# Altium footprint library HGH.PcbLib: 336 footprints (part 16 of 21)
Each footprint in its own frame and in the unit in brackets; x right, y up, seen from the top. Pads: shape width x height; smd on the part's side, far side on the other; paste and mask are expansions set on the pad; w line width, h text height; cw(c..) or ccw(c..) is an arc to the next point about the centre after c.
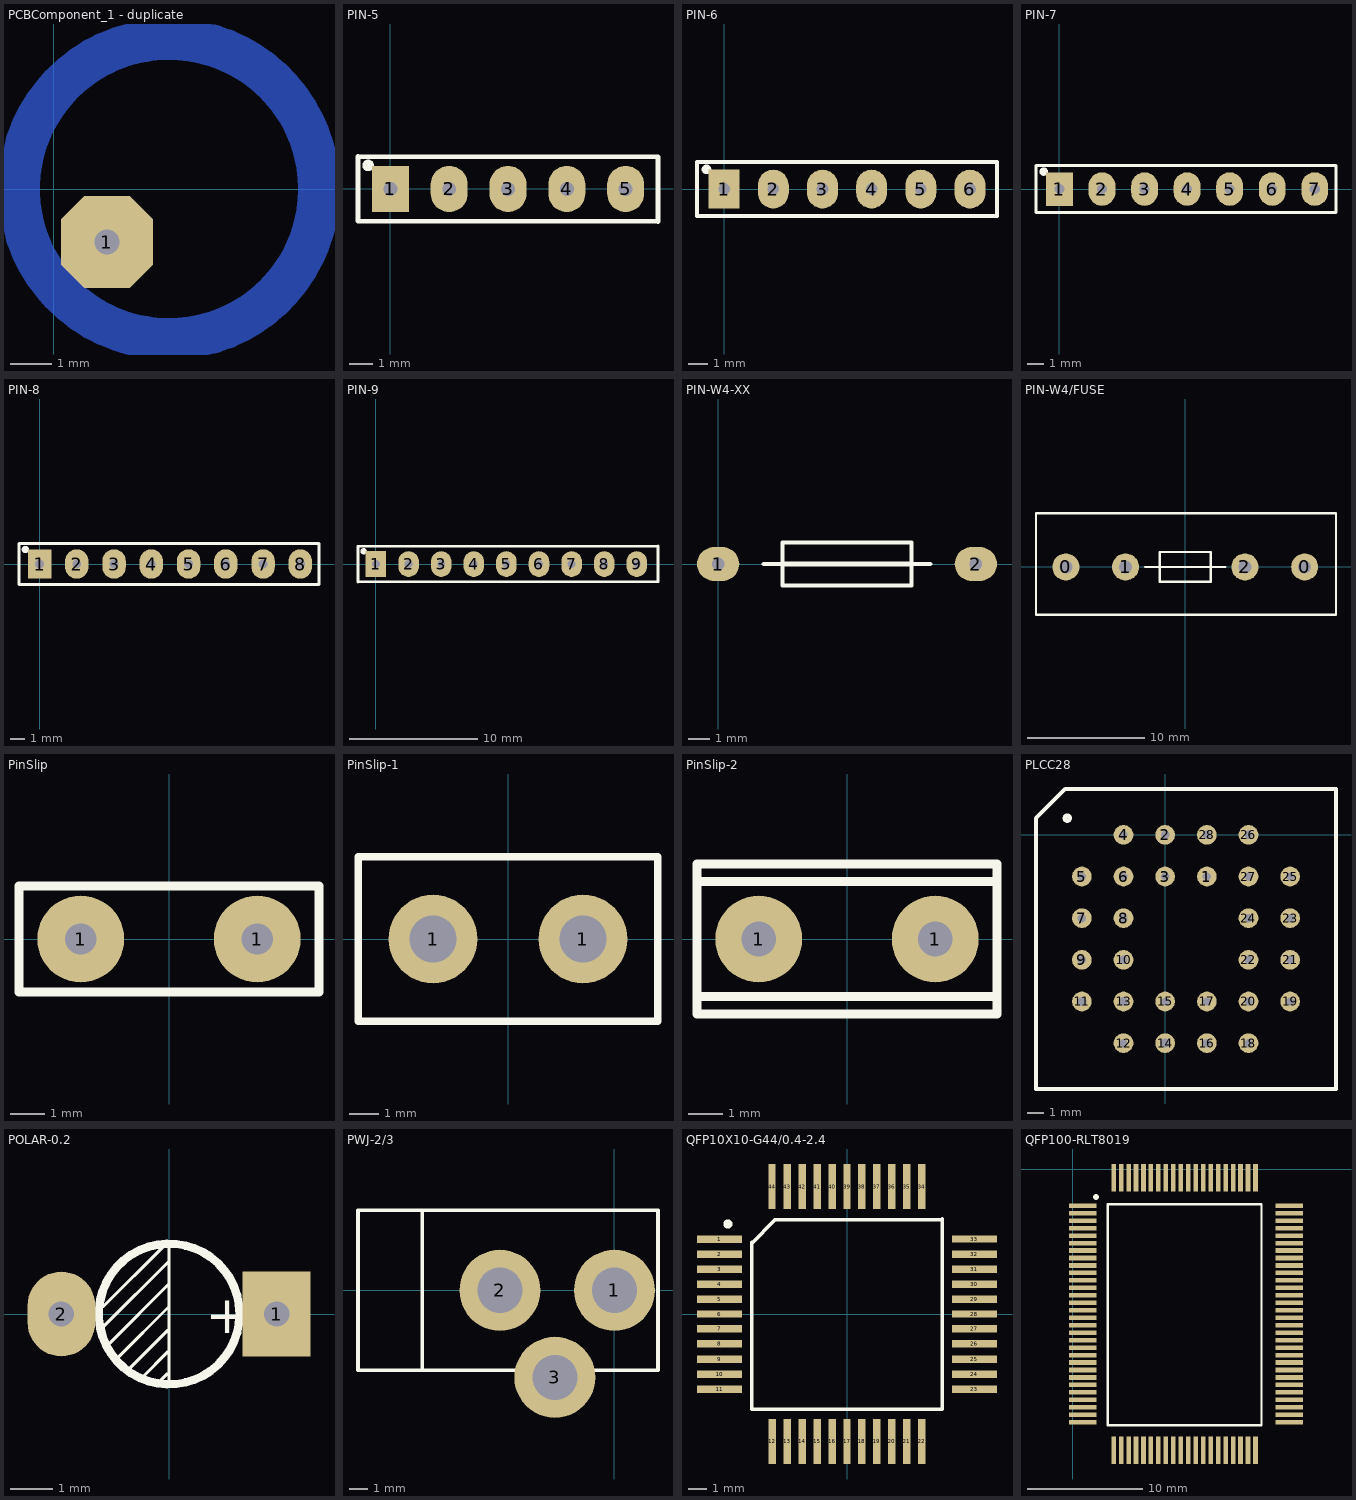
[diagram p15: the footprints below, top view; thin cyan lines are the x and y axes]

## PCBComponent_1 - duplicate [mm]
pads (1):
  oct 2.2x2.2 hole 0.6: 1(1.27,-1.27)
Bottom Layer:
  circle w1: c2.758,0 r3.592

## PIN-5 [mm]
pads (5):
  rect 1.6x2 hole 0.6: 1(0,0)
  oval 1.6x2 hole 0.6: 2(2.54,0) 3(5.08,0) 4(7.62,0) 5(10.16,0)
Top Overlay:
  circle w0.25: c-0.963,1.016 r0.125
  lines w0.2: -1.4,-1.4 -1.4,1.4 ; -1.397,-1.397 11.557,-1.397 ; -1.397,1.397 11.557,1.397 11.557,-1.403

## PIN-6 [mm]
pads (6):
  rect 1.6x2 hole 0.6: 1(0,0)
  oval 1.6x2 hole 0.6: 2(2.54,0) 3(5.08,0) 4(7.62,0) 5(10.16,0) 6(12.7,0)
Top Overlay:
  circle w0.25: c-0.912,1.016 r0.125
  lines w0.2: -1.4,-1.4 -1.4,1.4 14.097,1.403 14.097,-1.397 -1.4,-1.4

## PIN-7 [mm]
pads (7):
  rect 1.6x2 hole 0.6: 1(0,0)
  oval 1.6x2 hole 0.6: 2(2.54,0) 3(5.08,0) 4(7.62,0) 5(10.16,0) 6(12.7,0) 7(15.24,0)
Top Overlay:
  circle w0.25: c-0.938,1.041 r0.125
  lines w0.2: 16.51,-1.4 -1.4,-1.4 -1.4,1.4 16.51,1.397 ; 16.51,-1.397 16.51,1.403

## PIN-8 [mm]
pads (8):
  rect 1.6x2 hole 0.6: 1(0,0)
  oval 1.6x2 hole 0.6: 2(2.54,0) 3(5.08,0) 4(7.62,0) 5(10.16,0) 6(12.7,0) 7(15.24,0) 8(17.78,0)
Top Overlay:
  circle w0.25: c-0.963,0.991 r0.125
  lines w0.2: 19.05,1.397 -1.4,1.4 -1.4,-1.4 19.05,-1.397 19.05,1.403

## PIN-9 [mm]
pads (9):
  rect 1.6x2 hole 0.6: 1(0,0)
  oval 1.6x2 hole 0.6: 2(2.54,0) 3(5.08,0) 4(7.62,0) 5(10.16,0) 6(12.7,0) 7(15.24,0) 8(17.78,0) 9(20.32,0)
Top Overlay:
  circle w0.25: c-0.963,0.991 r0.125
  lines w0.2: -1.4,-1.4 -1.4,1.4 21.971,1.403 21.971,-1.397 -1.4,-1.4

## PIN-W4-XX [mm]
pads (2):
  oval 2x1.6 hole 0.6: 1(0,0) 2(12.192,0)
Top Overlay:
  lines w0.2: 2.159,0 3.048,0 ; 9.144,0 10.033,0 ; 3.048,-1.016 3.048,1.016 9.144,1.016 9.144,-1.016 3.048,-1.016
  lines w0.254: 3.048,0 9.144,0

## PIN-W4/FUSE [mm]
pads (4):
  round 2.3 hole 1.1: 0(-10.16,0) 0(10.16,0) 1(-5.08,0) 2(5.08,0)
Top Overlay:
  lines w0.2: -3.429,0 3.429,0 ; -12.7,-4.064 -12.7,4.572 12.827,4.572 12.827,-4.064 -12.7,-4.064 ; -2.159,-1.27 -2.159,1.27 2.159,1.27 2.159,-1.27 -2.159,-1.27

## PinSlip [mm]
pads (2):
  round 2.5 hole 0.9: 1(-2.54,0) 1(2.54,0)
Top Overlay:
  lines w0.254: -4.318,-1.524 -4.318,1.524 4.318,1.524 4.318,-1.524 -4.318,-1.524

## PinSlip-1 [mm]
pads (2):
  round 3 hole 1.6: 1(-2.54,0) 1(2.54,0)
Top Overlay:
  lines w0.254: -5.08,-2.794 -5.08,2.794 5.08,2.794 5.08,-2.794 -5.08,-2.794

## PinSlip-2 [mm]
pads (2):
  round 2.5 hole 1: 1(-2.54,0) 1(2.54,0)
Top Overlay:
  lines w0.254: -4.318,-1.651 4.318,-1.651 ; -4.318,1.651 4.318,1.651 ; -4.318,-2.159 -4.318,2.159 4.318,2.159 4.318,-2.159 -4.318,-2.159

## PLCC28 [mm]
pads (28):
  round 1.2 hole 0.5: 1(2.54,-2.54) 2(0,0) 3(0,-2.54) 4(-2.54,0) 5(-5.08,-2.54) 6(-2.54,-2.54) 7(-5.08,-5.08) 8(-2.54,-5.08) 9(-5.08,-7.62) 10(-2.54,-7.62) 12(-2.54,-12.7) 15(0,-10.16) 16(2.54,-12.7) 17(2.54,-10.16) 18(5.08,-12.7) 19(7.62,-10.16) 20(5.08,-10.16) 21(7.62,-7.62) 22(5.08,-7.62) 23(7.62,-5.08) 24(5.08,-5.08) 25(7.62,-2.54) 26(5.08,0) 27(5.08,-2.54) 28(2.54,0)
  round 1.2 hole 0.559: 11(-5.08,-10.16) 13(-2.54,-10.16) 14(0,-12.7)
Top Overlay:
  circle w0.275: c-5.967,1.016 r0.15
  lines w0.254: -7.874,-15.494 10.414,-15.494 10.414,2.794 -6.096,2.794 -7.874,1.016 -7.874,-15.494

## POLAR-0.2 [mm]
pads (2):
  rect 1.6x2 hole 0.6: 1(2.54,0)
  oval 1.6x2 hole 0.6: 2(-2.54,0)
Top Overlay:
  circle w0.2: c0.005,0 r1.66
  lines w0.076: -1.549,-0.305 0,1.245 ; -1.549,0.178 -0.127,1.6 ; -1.397,-0.686 0,0.711 ; -1.194,-1.016 0,0.178 ; -0.94,-1.295 -0.025,-0.381 ; -0.635,-1.499 -0.025,-0.889 ; -0.229,-1.6 -0.051,-1.422 ; 0,-1.651 0,1.651
  text "+" at 0.864,-0.457 h0.89

## PWJ-2/3 [mm]
pads (3):
  round 4.5 hole 2.5: 1(0,0) 2(-6.35,0) 3(-3.302,-4.826)
Top Overlay:
  lines w0.2: -10.668,-4.445 -10.668,4.445 ; -14.224,-4.445 2.413,-4.445 2.413,4.445 -14.224,4.445 -14.224,-4.445

## QFP10X10-G44/0.4-2.4 [mm]
pads (44):
  rect 2.4x0.4 smd: 1(-6.8,4) 2(-6.8,3.2) 3(-6.8,2.4) 4(-6.8,1.6) 5(-6.8,0.8) 6(-6.8,0) 7(-6.8,-0.8) 8(-6.8,-1.6) 9(-6.8,-2.4) 10(-6.8,-3.2) 11(-6.8,-4) 23(6.8,-4) 24(6.8,-3.2) 25(6.8,-2.4) 26(6.8,-1.6) 27(6.8,-0.8) 28(6.8,0) 29(6.8,0.8) 30(6.8,1.6) 31(6.8,2.4) 32(6.8,3.2) 33(6.8,4)
  rect 0.4x2.4 smd: 12(-4,-6.8) 13(-3.2,-6.8) 14(-2.4,-6.8) 15(-1.6,-6.8) 16(-0.8,-6.8) 17(0,-6.8) 18(0.8,-6.8) 19(1.6,-6.8) 20(2.4,-6.8) 21(3.2,-6.8) 22(4,-6.8) 34(4,6.8) 35(3.2,6.8) 36(2.4,6.8) 37(1.6,6.8) 38(0.8,6.8) 39(0,6.8) 40(-0.8,6.8) 41(-1.6,6.8) 42(-2.4,6.8) 43(-3.2,6.8) 44(-4,6.8)
Top Overlay:
  circle w0.25: c-6.35,4.8 r0.125
  lines w0.2: -5.08,3.81 -5.08,-5.08 5.08,-5.08 5.08,5.08 ; -5.055,3.785 -3.886,4.978 ; -3.835,5.029 5.004,5.029

## QFP100-RLT8019 [mm]
pads (100):
  rect 2.4x0.4 smd: 1(0.889,-3.175) 2(0.889,-3.825) 3(0.889,-4.475) 4(0.889,-5.125) 5(0.889,-5.775) 6(0.889,-6.425) 7(0.889,-7.075) 8(0.889,-7.725) 9(0.889,-8.375) 10(0.889,-9.025) 11(0.889,-9.675) 12(0.889,-10.325) 13(0.889,-10.975) 14(0.889,-11.625) 15(0.889,-12.275) 16(0.889,-12.925) 17(0.889,-13.575) 18(0.889,-14.225) 19(0.889,-14.875) 20(0.889,-15.525) 21(0.889,-16.175) 22(0.889,-16.825) 23(0.889,-17.475) 24(0.889,-18.125) 25(0.889,-18.775) 26(0.889,-19.425) 27(0.889,-20.075) 28(0.889,-20.725) 29(0.889,-21.375) 30(0.889,-22.025) 51(18.863,-22.025) 52(18.863,-21.375) 53(18.863,-20.725) 54(18.863,-20.075) 55(18.863,-19.425) 56(18.863,-18.775) 57(18.863,-18.125) 58(18.863,-17.475) 59(18.863,-16.825) 60(18.863,-16.175) 61(18.863,-15.525) 62(18.863,-14.875) 63(18.863,-14.225) 64(18.863,-13.575) 65(18.863,-12.925) 66(18.863,-12.275) 67(18.863,-11.625) 68(18.863,-10.975) 69(18.863,-10.325) 70(18.863,-9.675) 71(18.863,-9.025) 72(18.863,-8.375) 73(18.863,-7.725) 74(18.863,-7.075) 75(18.863,-6.425) 76(18.863,-5.775) 77(18.863,-5.125) 78(18.863,-4.475) 79(18.863,-3.825) 80(18.863,-3.175)
  rect 0.4x2.4 smd: 31(3.574,-24.46) 32(4.224,-24.46) 33(4.874,-24.46) 34(5.524,-24.46) 35(6.174,-24.46) 36(6.824,-24.46) 37(7.474,-24.46) 38(8.124,-24.46) 39(8.774,-24.46) 40(9.424,-24.46) 41(10.074,-24.46) 42(10.724,-24.46) 43(11.374,-24.46) 44(12.024,-24.46) 45(12.674,-24.46) 46(13.324,-24.46) 47(13.974,-24.46) 48(14.624,-24.46) 49(15.274,-24.46) 50(15.924,-24.46) 81(15.924,-0.74) 82(15.274,-0.74) 83(14.624,-0.74) 84(13.974,-0.74) 85(13.324,-0.74) 86(12.674,-0.74) 87(12.024,-0.74) 88(11.374,-0.74) 89(10.724,-0.74) 90(10.074,-0.74) 91(9.424,-0.74) 92(8.774,-0.74) 93(8.124,-0.74) 94(7.474,-0.74) 95(6.824,-0.74) 96(6.174,-0.74) 97(5.524,-0.74) 98(4.874,-0.74) 99(4.224,-0.74) 100(3.574,-0.74)
Top Overlay:
  circle w0.25: c2.034,-2.413 r0.125
  lines w0.2: 3.055,-22.294 3.055,-3.033 16.443,-3.033 16.443,-22.294 3.055,-22.294